# EAGLE library part HFS50R2 (library con-thomas-betts)
THOMAS&BETTS
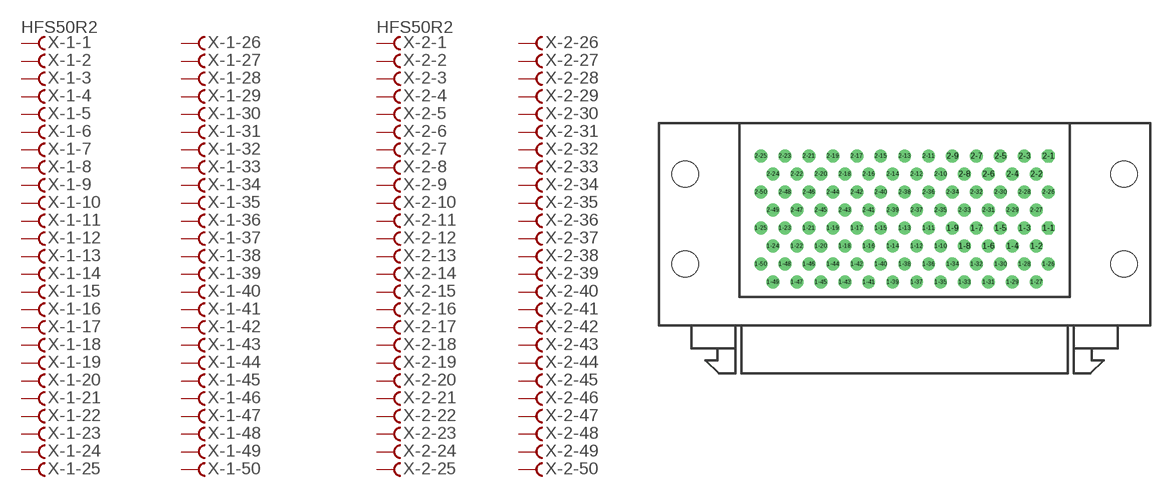
[diagram p18: symbol with the pads of HFS50R; footprint HFS50R]

Designator prefix X; gates -1-1=FV -1-2=F -1-3=F -1-4=F -1-5=F -1-6=F -1-7=F -1-8=F -1-9=F -1-10=F -1-11=F -1-12=F -1-13=F -1-14=F -1-15=F -1-16=F -1-17=F -1-18=F -1-19=F -1-20=F -1-21=F -1-22=F -1-23=F -1-24=F -1-25=F -1-26=F -1-27=F -1-28=F -1-29=F -1-30=F -1-31=F -1-32=F -1-33=F -1-34=F -1-35=F -1-36=F -1-37=F -1-38=F -1-39=F -1-40=F -1-41=F -1-42=F -1-43=F -1-44=F -1-45=F -1-46=F -1-47=F -1-48=F -1-49=F -1-50=F -2-1=FV -2-2=F -2-3=F -2-4=F -2-5=F -2-6=F -2-7=F -2-8=F -2-9=F -2-10=F -2-11=F -2-12=F -2-13=F -2-14=F -2-15=F -2-16=F -2-17=F -2-18=F -2-19=F -2-20=F -2-21=F -2-22=F -2-23=F -2-24=F -2-25=F -2-26=F -2-27=F -2-28=F -2-29=F -2-30=F -2-31=F -2-32=F -2-33=F -2-34=F -2-35=F -2-36=F -2-37=F -2-38=F -2-39=F -2-40=F -2-41=F -2-42=F -2-43=F -2-44=F -2-45=F -2-46=F -2-47=F -2-48=F -2-49=F -2-50=F

## HFS50R2 (OC_FARNELL: unknown; OC_NEWARK: unknown)  [HFS50R]
1-1  -1-1:F  pas
1-2  -1-2:F  pas
1-3  -1-3:F  pas
1-4  -1-4:F  pas
1-5  -1-5:F  pas
1-6  -1-6:F  pas
1-7  -1-7:F  pas
1-8  -1-8:F  pas
1-9  -1-9:F  pas
1-10  -1-10:F  pas
1-11  -1-11:F  pas
1-12  -1-12:F  pas
1-13  -1-13:F  pas
1-14  -1-14:F  pas
1-15  -1-15:F  pas
1-16  -1-16:F  pas
1-17  -1-17:F  pas
1-18  -1-18:F  pas
1-19  -1-19:F  pas
1-20  -1-20:F  pas
1-21  -1-21:F  pas
1-22  -1-22:F  pas
1-23  -1-23:F  pas
1-24  -1-24:F  pas
1-25  -1-25:F  pas
1-26  -1-26:F  pas
1-27  -1-27:F  pas
1-28  -1-28:F  pas
1-29  -1-29:F  pas
1-30  -1-30:F  pas
1-31  -1-31:F  pas
1-32  -1-32:F  pas
1-33  -1-33:F  pas
1-34  -1-34:F  pas
1-35  -1-35:F  pas
1-36  -1-36:F  pas
1-37  -1-37:F  pas
1-38  -1-38:F  pas
1-39  -1-39:F  pas
1-40  -1-40:F  pas
1-41  -1-41:F  pas
1-42  -1-42:F  pas
1-43  -1-43:F  pas
1-44  -1-44:F  pas
1-45  -1-45:F  pas
1-46  -1-46:F  pas
1-47  -1-47:F  pas
1-48  -1-48:F  pas
1-49  -1-49:F  pas
1-50  -1-50:F  pas
2-1  -2-1:F  pas
2-2  -2-2:F  pas
2-3  -2-3:F  pas
2-4  -2-4:F  pas
2-5  -2-5:F  pas
2-6  -2-6:F  pas
2-7  -2-7:F  pas
2-8  -2-8:F  pas
2-9  -2-9:F  pas
2-10  -2-10:F  pas
2-11  -2-11:F  pas
2-12  -2-12:F  pas
2-13  -2-13:F  pas
2-14  -2-14:F  pas
2-15  -2-15:F  pas
2-16  -2-16:F  pas
2-17  -2-17:F  pas
2-18  -2-18:F  pas
2-19  -2-19:F  pas
2-20  -2-20:F  pas
2-21  -2-21:F  pas
2-22  -2-22:F  pas
2-23  -2-23:F  pas
2-24  -2-24:F  pas
2-25  -2-25:F  pas
2-26  -2-26:F  pas
2-27  -2-27:F  pas
2-28  -2-28:F  pas
2-29  -2-29:F  pas
2-30  -2-30:F  pas
2-31  -2-31:F  pas
2-32  -2-32:F  pas
2-33  -2-33:F  pas
2-34  -2-34:F  pas
2-35  -2-35:F  pas
2-36  -2-36:F  pas
2-37  -2-37:F  pas
2-38  -2-38:F  pas
2-39  -2-39:F  pas
2-40  -2-40:F  pas
2-41  -2-41:F  pas
2-42  -2-42:F  pas
2-43  -2-43:F  pas
2-44  -2-44:F  pas
2-45  -2-45:F  pas
2-46  -2-46:F  pas
2-47  -2-47:F  pas
2-48  -2-48:F  pas
2-49  -2-49:F  pas
2-50  -2-50:F  pas

## Footprint HFS50R (pad centres in mm)
THOMAS&BETTS Fine Pitch "D" Connector HFS50Rx29x
drill 0.864 octagon: 1-1 15.24,8.87; 2-1 15.24,16.51
drill 0.864: 1-2 13.97,6.96; 1-3 12.7,8.87; 1-4 11.43,6.96; 1-5 10.16,8.87; 1-6 8.89,6.96; 1-7 7.62,8.87; 1-8 6.35,6.96; 1-9 5.08,8.87; 1-10 3.81,6.96; 1-11 2.54,8.87; 1-12 1.27,6.96; 1-13 0,8.87; 1-14 -1.27,6.96; 1-15 -2.54,8.87; 1-16 -3.81,6.96; 1-17 -5.08,8.87; 1-18 -6.35,6.96; 1-19 -7.62,8.87; 1-20 -8.89,6.96; 1-21 -10.16,8.87; 1-22 -11.43,6.96; 1-23 -12.7,8.87; 1-24 -13.97,6.96; 1-25 -15.24,8.87; 1-26 15.24,5.05; 1-27 13.97,3.14; 1-28 12.7,5.05; 1-29 11.43,3.14; 1-30 10.16,5.05; 1-31 8.89,3.14; 1-32 7.62,5.05; 1-33 6.35,3.14; 1-34 5.08,5.05; 1-35 3.81,3.14; 1-36 2.54,5.05; 1-37 1.27,3.14; 1-38 0,5.05; 1-39 -1.27,3.14; 1-40 -2.54,5.05; 1-41 -3.81,3.14; 1-42 -5.08,5.05; 1-43 -6.35,3.14; 1-44 -7.62,5.05; 1-45 -8.89,3.14; 1-46 -10.16,5.05; 1-47 -11.43,3.14; 1-48 -12.7,5.05; 1-49 -13.97,3.14; 1-50 -15.24,5.05; 2-2 13.97,14.6; 2-3 12.7,16.51; 2-4 11.43,14.6; 2-5 10.16,16.51; 2-6 8.89,14.6; 2-7 7.62,16.51; 2-8 6.35,14.6; 2-9 5.08,16.51; 2-10 3.81,14.6; 2-11 2.54,16.51; 2-12 1.27,14.6; 2-13 0,16.51; 2-14 -1.27,14.6; 2-15 -2.54,16.51; 2-16 -3.81,14.6; 2-17 -5.08,16.51; 2-18 -6.35,14.6; 2-19 -7.62,16.51; 2-20 -8.89,14.6; 2-21 -10.16,16.51; 2-22 -11.43,14.6; 2-23 -12.7,16.51; 2-24 -13.97,14.6; 2-25 -15.24,16.51; 2-26 15.24,12.69; 2-27 13.97,10.78; 2-28 12.7,12.69; 2-29 11.43,10.78; 2-30 10.16,12.69; 2-31 8.89,10.78; 2-32 7.62,12.69; 2-33 6.35,10.78; 2-34 5.08,12.69; 2-35 3.81,10.78; 2-36 2.54,12.69; 2-37 1.27,10.78; 2-38 0,12.69; 2-39 -1.27,10.78; 2-40 -2.54,12.69; 2-41 -3.81,10.78; 2-42 -5.08,12.69; 2-43 -6.35,10.78; 2-44 -7.62,12.69; 2-45 -8.89,10.78; 2-46 -10.16,12.69; 2-47 -11.43,10.78; 2-48 -12.7,12.69; 2-49 -13.97,10.78; 2-50 -15.24,12.69
hole 2.769 at 23.241,5.05
hole 2.769 at -23.241,5.05
hole 2.769 at 23.241,14.6
hole 2.769 at -23.241,14.6